# Altium integrated library KF33BD-TR.IntLib: 1 symbol
Pins are listed as number, name and electrical type; pins without a type are passive.

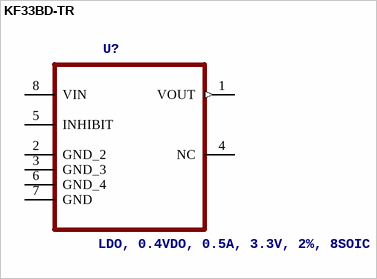
[diagram p0: symbol KF33BD-TR]

## KF33BD-TR
designator U?, comment LDO, 0.4VDO, 0.5A, 3.3V, 2%, 8SOIC
MPN: KF33BD-TR; OC_FARNELL: 2253497; OC_NEWARK: 25M9948; PACKAGE: SOIC-8; SUPPLIER: STMicroelectronics
footprint SOIC127P600X175-8N
pins: 1 VOUT (out), 2 GND_2, 3 GND_3, 4 NC, 5 INHIBIT, 6 GND_4, 7 GND, 8 VIN